# Altium schematic symbol library B-SOM.SchLib: 1 symbol
Pins are listed as number, name and electrical type; pins without a type are passive.

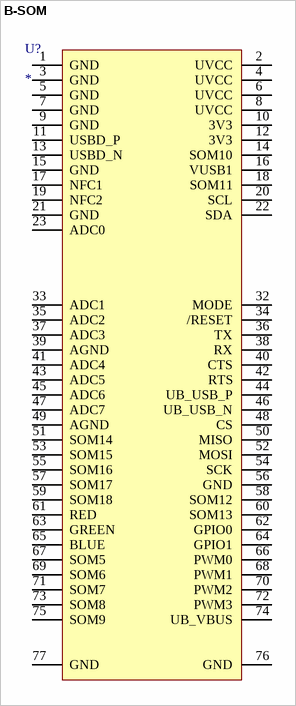
[diagram p0: symbol B-SOM]

## B-SOM
designator U?
Value: *
pins: 1 GND, 2 UVCC, 3 GND, 4 UVCC, 5 GND, 6 UVCC, 7 GND, 8 UVCC, 9 GND, 10 3V3, 11 USBD_P, 12 3V3, 13 USBD_N, 14 SOM10, 15 GND, 16 VUSB1, 17 NFC1, 18 SOM11, 19 NFC2, 20 SCL, 21 GND, 22 SDA, 23 ADC0, 32 MODE, 33 ADC1, 34 /RESET, 35 ADC2, 36 TX, 37 ADC3, 38 RX, 39 AGND, 40 CTS, 41 ADC4, 42 RTS, 43 ADC5, 44 UB_USB_P, 45 ADC6, 46 UB_USB_N, 47 ADC7, 48 CS, 49 AGND, 50 MISO, 51 SOM14, 52 MOSI, 53 SOM15, 54 SCK, 55 SOM16, 56 GND, 57 SOM17, 58 SOM12, 59 SOM18, 60 SOM13, 61 RED, 62 GPIO0, 63 GREEN, 64 GPIO1, 65 BLUE, 66 PWM0, 67 SOM5, 68 PWM1, 69 SOM6, 70 PWM2, 71 SOM7, 72 PWM3, 73 SOM8, 74 UB_VBUS, 75 SOM9, 76 GND, 77 GND